# Altium schematic symbol library PCB_LDB-U01.SchLib: 16 symbols
Pins are listed as number, name and electrical type; pins without a type are passive.

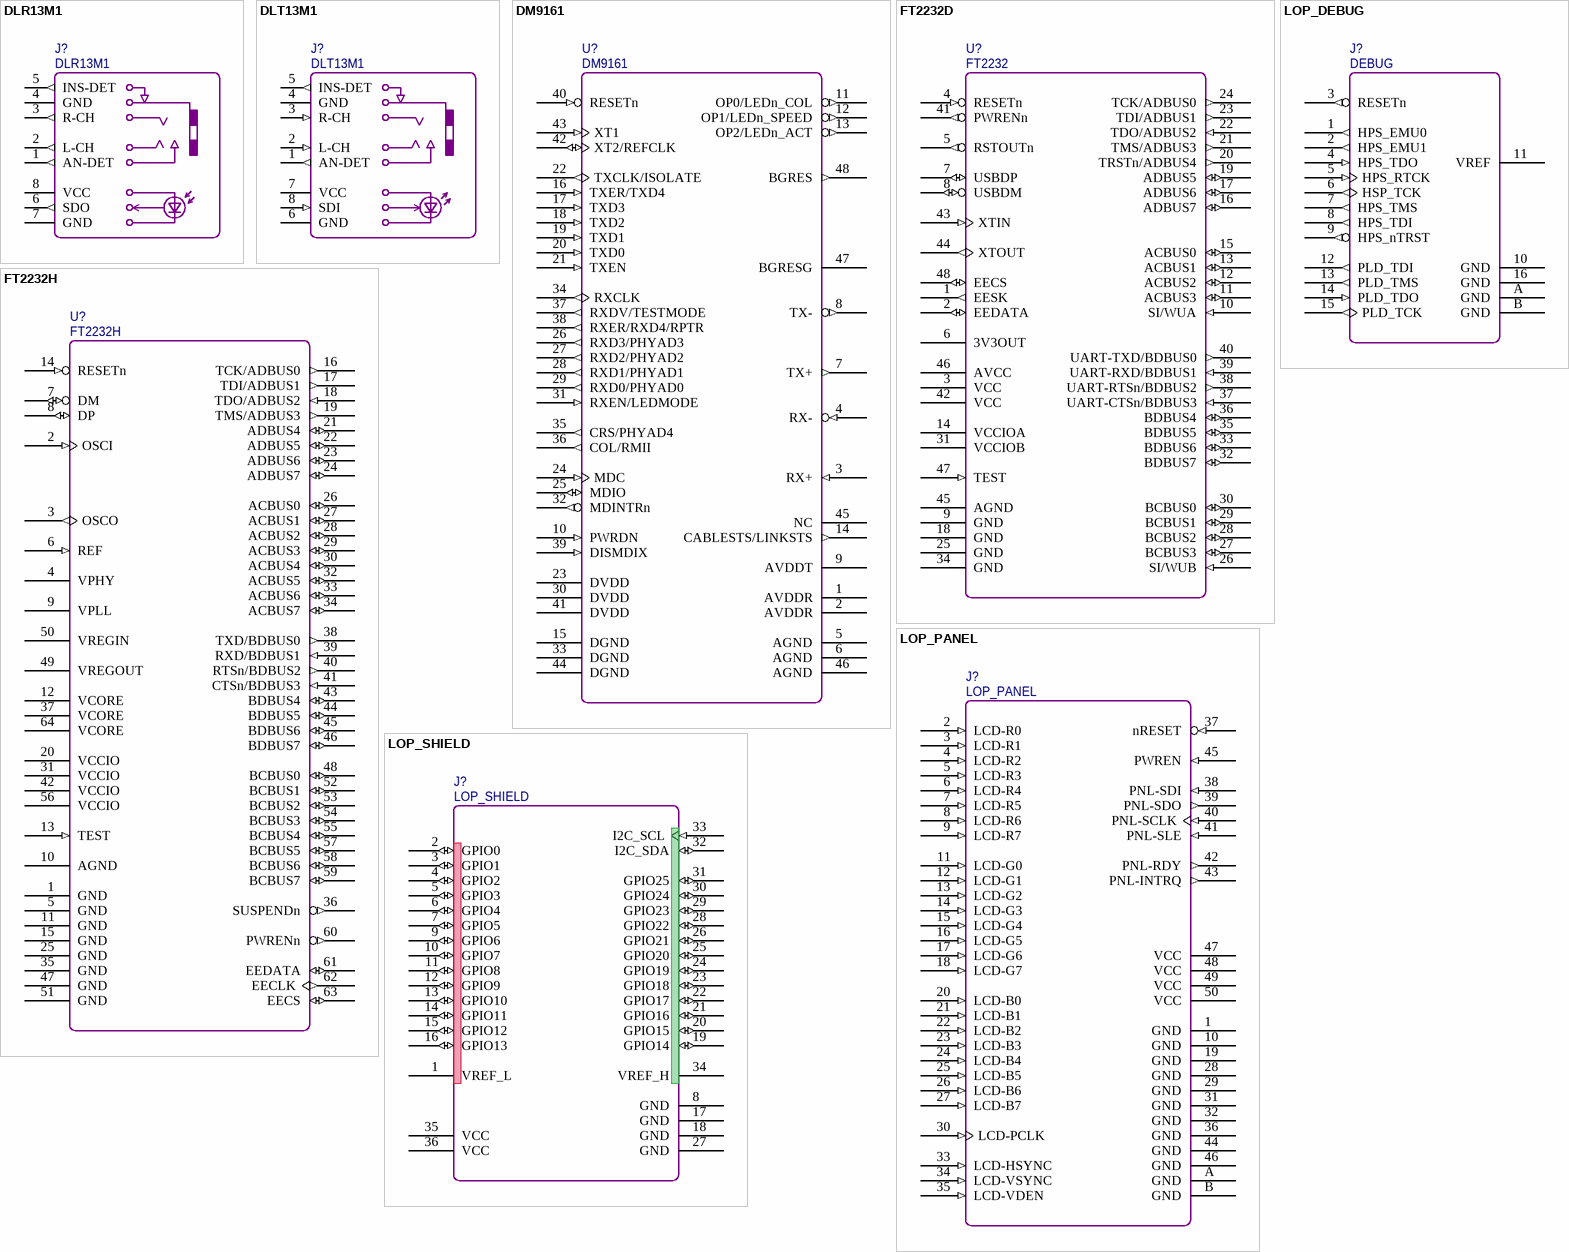
[diagram p0: symbols DLR13M1 to LOP_SHIELD]

## DLR13M1
designator J?
3.5mm Audio Jack with SPDIF Optical Input; Vendor: Ax-Edison; PinCountSMD: 0; PinCountHole: 9; Designer: shyul; PCBMarker: Audio Out; Value: DLR13M1; PartNumber: DLR13M1; Version: 1.0; VersionDate: 03-16-2012; SerialNumber: 0; Publisher: Cowin
footprint DLR13M1
pins: 1 AN-DET (out), 2 L-CH (out), 3 R-CH (out), 4 GND, 5 INS-DET (out), 6 SDO (out), 7 GND, 8 VCC
2 alternate drawings of the same symbol

## DLT13M1
designator J?
3.5mm Audio Jack with SPDIF Optical Output; Vendor: Ax-Edison; PinCountSMD: 0; PinCountHole: 9; Designer: shyul; PCBMarker: Audio Out; Value: DLT13M1; PartNumber: DLT13M1; Version: 1.0; VersionDate: 03-16-2012; SerialNumber: 0; Publisher: Cowin
footprint DLT13M1
pins: 1 AN-DET (out), 2 L-CH (in), 3 R-CH (in), 4 GND, 5 INS-DET (out), 6 GND, 7 VCC, 8 SDI (in)
2 alternate drawings of the same symbol

## DM9161
designator U?
DM9161 10/100M Ethernet PHY; PartNumber: DM9161AEP; Vendor: DAVICOM; PinCountSMD: 48; PinCountHole: 0; Designer: shyul; Value: DM9161; Version: 1.0; VersionDate: 03-26-2012; SerialNumber: 0; Publisher: Cowin; PCBMarker: PHY
footprint TQFP-48A
pins: 1 AVDDR, 2 AVDDR, 3 RX+ (in), 4 RX- (in), 5 AGND, 6 AGND, 7 TX+ (out), 8 TX- (out), 9 AVDDT, 10 PWRDN (in), 11 OP0/LEDn_COL (out), 12 OP1/LEDn_SPEED (out), 13 OP2/LEDn_ACT (out), 14 CABLESTS/LINKSTS (out), 15 DGND, 16 TXER/TXD4 (in), 17 TXD3 (in), 18 TXD2 (in), 19 TXD1 (in), 20 TXD0 (in), 21 TXEN (in), 22 TXCLK/ISOLATE (out), 23 DVDD, 24 MDC (in), 25 MDIO (io), 26 RXD3/PHYAD3 (out), 27 RXD2/PHYAD2 (out), 28 RXD1/PHYAD1 (out), 29 RXD0/PHYAD0 (out), 30 DVDD, 31 RXEN/LEDMODE (in), 32 MDINTRn (out), 33 DGND, 34 RXCLK (out), 35 CRS/PHYAD4 (out), 36 COL/RMII (out), 37 RXDV/TESTMODE (out), 38 RXER/RXD4/RPTR (out), 39 DISMDIX (in), 40 RESETn (in), 41 DVDD, 42 XT2/REFCLK (io), 43 XT1 (in), 44 DGND, 45 NC, 46 AGND, 47 BGRESG, 48 BGRES (out)
2 alternate drawings of the same symbol

## FT2232D
designator U?, comment FT2232
USB to JTAG/UART; PartNumber: FT2232D; Vendor: FTDI; PinCountSMD: 48; PinCountHole: 0; Designer: shyul; PCBMarker: 2232; Value: FT2232; Version: 1.0; VersionDate: 03-26-2012; SerialNumber: 0; Publisher: Cowin
footprint TQFP-48A
pins: 1 EESK (out), 2 EEDATA (io), 3 VCC, 4 RESETn (in), 5 RSTOUTn (out), 6 3V3OUT (power), 7 USBDP (io), 8 USBDM (io), 9 GND, 10 SI/WUA (in), 11 ACBUS3 (io), 12 ACBUS2 (io), 13 ACBUS1 (io), 14 VCCIOA, 15 ACBUS0 (io), 16 ADBUS7 (io), 17 ADBUS6 (io), 18 GND, 19 ADBUS5 (io), 20 TRSTn/ADBUS4 (out), 21 TMS/ADBUS3 (out), 22 TDO/ADBUS2 (in), 23 TDI/ADBUS1 (out), 24 TCK/ADBUS0 (out), 25 GND, 26 SI/WUB (in), 27 BCBUS3 (io), 28 BCBUS2 (io), 29 BCBUS1 (io), 30 BCBUS0 (io), 31 VCCIOB, 32 BDBUS7 (io), 33 BDBUS6 (io), 34 GND, 35 BDBUS5 (io), 36 BDBUS4 (io), 37 UART-CTSn/BDBUS3 (in), 38 UART-RTSn/BDBUS2 (out), 39 UART-RXD/BDBUS1 (in), 40 UART-TXD/BDBUS0 (out), 41 PWRENn (out), 42 VCC, 43 XTIN (in), 44 XTOUT (out), 45 AGND, 46 AVCC, 47 TEST (in), 48 EECS (io)
2 alternate drawings of the same symbol

## FT2232H
designator U?
USB to JTAG/UART; PartNumber: FT2232HL; Vendor: FTDI; PinCountSMD: 64; PinCountHole: 0; Designer: shyul; PCBMarker: 2232; Value: FT2232H; Version: 1.0; VersionDate: 03-26-2012; SerialNumber: 0; Publisher: Cowin
footprint TQFP-64A
pins: 1 GND, 2 OSCI (in), 3 OSCO (out), 4 VPHY, 5 GND, 6 REF (in), 7 DM (io), 8 DP (io), 9 VPLL, 10 AGND, 11 GND, 12 VCORE, 13 TEST (in), 14 RESETn (in), 15 GND, 16 TCK/ADBUS0 (out), 17 TDI/ADBUS1 (out), 18 TDO/ADBUS2 (in), 19 TMS/ADBUS3 (out), 20 VCCIO, 21 ADBUS4 (io), 22 ADBUS5 (io), 23 ADBUS6 (io), 24 ADBUS7 (io), 25 GND, 26 ACBUS0 (io), 27 ACBUS1 (io), 28 ACBUS2 (io), 29 ACBUS3 (io), 30 ACBUS4 (io), 31 VCCIO, 32 ACBUS5 (io), 33 ACBUS6 (io), 34 ACBUS7 (io), 35 GND, 36 SUSPENDn (out), 37 VCORE, 38 TXD/BDBUS0 (out), 39 RXD/BDBUS1 (in), 40 RTSn/BDBUS2 (out), 41 CTSn/BDBUS3 (in), 42 VCCIO, 43 BDBUS4 (io), 44 BDBUS5 (io), 45 BDBUS6 (io), 46 BDBUS7 (io), 47 GND, 48 BCBUS0 (io), 49 VREGOUT (power), 50 VREGIN, 51 GND, 52 BCBUS1 (io), 53 BCBUS2 (io), 54 BCBUS3 (io), 55 BCBUS4 (io), 56 VCCIO, 57 BCBUS5 (io), 58 BCBUS6 (io), 59 BCBUS7 (io), 60 PWRENn (out), 61 EEDATA (io), 62 EECLK (out), 63 EECS (io), 64 VCORE
2 alternate drawings of the same symbol

## LOP_DEBUG
designator J?, comment DEBUG
JTAG HPI Header; SerialNumber: 0; Vendor: Tyco; Designer: shyul; PCBMarker: DEBUG; PartNumber: DEBUG; Version: 1.0; VersionDate: 03-30-2012; Value: DEBUG; Publisher: Cowin; PinCountHole: 0
footprint HPI_1P25_RA16S
pins: 1 HPS_EMU0 (out), 2 HPS_EMU1 (out), 3 RESETn (out), 4 HPS_TDO (in), 5 HPS_RTCK (in), 6 HSP_TCK (out), 7 HPS_TMS (out), 8 HPS_TDI (out), 9 HPS_nTRST (out), 10 GND, 11 VREF, 12 PLD_TDI (out), 13 PLD_TMS (out), 14 PLD_TDO (in), 15 PLD_TCK (out), 16 GND, A GND (power), B GND (power)

## LOP_PANEL
designator J?
Lophilo Panel Interface; Vendor: 0; PinCountHole: 52; Designer: shyul; Value: LOP_PANEL; PartNumber: LOP_PANEL; Version: 1.0; VersionDate: 06-03-2012; PinCountSMD: 0; SerialNumber: 0; Publisher: Cowin; PCBMarker: LOP_PANEL
footprint FPC_0P5_50A
pins: 1 GND, 2 LCD-R0 (in), 3 LCD-R1 (in), 4 LCD-R2 (in), 5 LCD-R3 (in), 6 LCD-R4 (in), 7 LCD-R5 (in), 8 LCD-R6 (in), 9 LCD-R7 (in), 10 GND, 11 LCD-G0 (in), 12 LCD-G1 (in), 13 LCD-G2 (in), 14 LCD-G3 (in), 15 LCD-G4 (in), 16 LCD-G5 (in), 17 LCD-G6 (in), 18 LCD-G7 (in), 19 GND, 20 LCD-B0 (in), 21 LCD-B1 (in), 22 LCD-B2 (in), 23 LCD-B3 (in), 24 LCD-B4 (in), 25 LCD-B5 (in), 26 LCD-B6 (in), 27 LCD-B7 (in), 28 GND, 29 GND, 30 LCD-PCLK (in), 31 GND, 32 GND, 33 LCD-HSYNC (in), 34 LCD-VSYNC (in), 35 LCD-VDEN (in), 36 GND, 37 nRESET (in), 38 PNL-SDI (in), 39 PNL-SDO (out), 40 PNL-SCLK (in), 41 PNL-SLE (in), 42 PNL-RDY (out), 43 PNL-INTRQ (out), 44 GND, 45 PWREN (in), 46 GND, 47 VCC, 48 VCC, 49 VCC, 50 VCC, A GND, B GND
2 alternate drawings of the same symbol

## LOP_SHIELD
designator J?
Lophilo Shield Module Slot; Vendor: 0; PinCountHole: 36; Designer: shyul; Value: LOP_SHIELD; PartNumber: LOP_SHIELD; Version: 1.0; VersionDate: 03-19-2012; PinCountSMD: 0; SerialNumber: 0; Publisher: Cowin; PCBMarker: LOP_SHIELD
footprint LOP_SHIELD
pins: 1 VREF_L (power), 2 GPIO0 (io), 3 GPIO1 (io), 4 GPIO2 (io), 5 GPIO3 (io), 6 GPIO4 (io), 7 GPIO5 (io), 8 GND, 9 GPIO6 (io), 10 GPIO7 (io), 11 GPIO8 (io), 12 GPIO9 (io), 13 GPIO10 (io), 14 GPIO11 (io), 15 GPIO12 (io), 16 GPIO13 (io), 17 GND, 18 GND, 19 GPIO14 (io), 20 GPIO15 (io), 21 GPIO16 (io), 22 GPIO17 (io), 23 GPIO18 (io), 24 GPIO19 (io), 25 GPIO20 (io), 26 GPIO21 (io), 27 GND, 28 GPIO22 (io), 29 GPIO23 (io), 30 GPIO24 (io), 31 GPIO25 (io), 32 I2C_SDA (io), 33 I2C_SCL (in), 34 VREF_H (power), 35 VCC, 36 VCC
2 alternate drawings of the same symbol

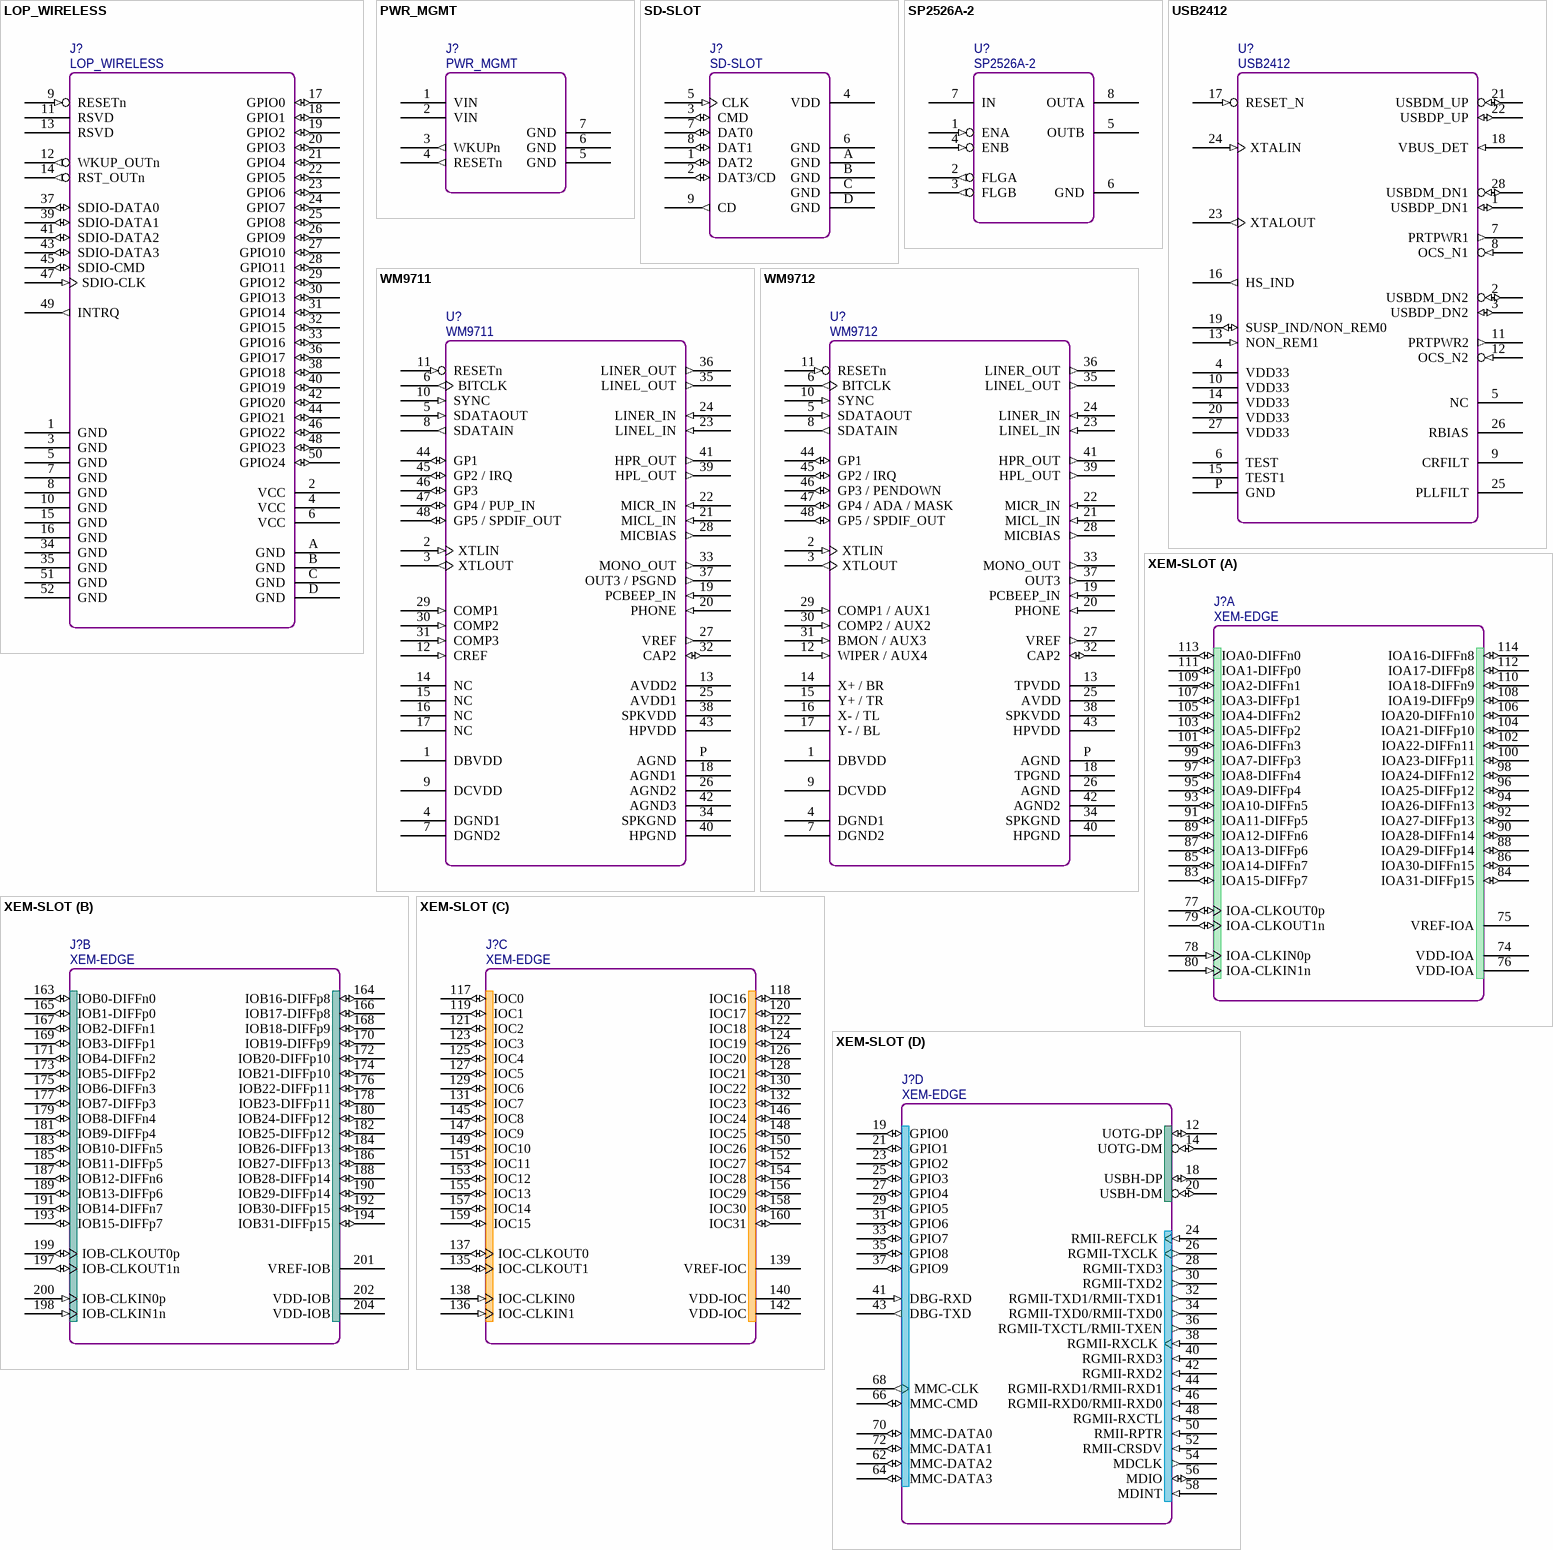
[diagram p1: symbols LOP_WIRELESS to XEM-SLOT]

## LOP_WIRELESS
designator J?
Lophilo Wireless Module Slot; Vendor: 0; PinCountHole: 36; Designer: shyul; Value: LOP_WIRELESS; PartNumber: LOP_WIRELESS; Version: 1.0; VersionDate: 03-19-2012; PinCountSMD: 0; SerialNumber: 0; Publisher: Cowin; PCBMarker: LOP_WIRELESS
footprint LOP_WIRELESS
pins: 1 GND, 2 VCC, 3 GND, 4 VCC, 5 GND, 6 VCC, 7 GND, 8 GND, 9 RESETn (in), 10 GND, 11 RSVD, 12 WKUP_OUTn (out), 13 RSVD, 14 RST_OUTn (out), 15 GND, 16 GND, 17 GPIO0 (io), 18 GPIO1 (io), 19 GPIO2 (io), 20 GPIO3 (io), 21 GPIO4 (io), 22 GPIO5 (io), 23 GPIO6 (io), 24 GPIO7 (io), 25 GPIO8 (io), 26 GPIO9 (io), 27 GPIO10 (io), 28 GPIO11 (io), 29 GPIO12 (io), 30 GPIO13 (io), 31 GPIO14 (io), 32 GPIO15 (io), 33 GPIO16 (io), 34 GND, 35 GND, 36 GPIO17 (io), 37 SDIO-DATA0 (io), 38 GPIO18 (io), 39 SDIO-DATA1 (io), 40 GPIO19 (io), 41 SDIO-DATA2 (io), 42 GPIO20 (io), 43 SDIO-DATA3 (io), 44 GPIO21 (io), 45 SDIO-CMD (io), 46 GPIO22 (io), 47 SDIO-CLK (in), 48 GPIO23 (io), 49 INTRQ (out), 50 GPIO24 (io), 51 GND, 52 GND, A GND, B GND, C GND, D GND
2 alternate drawings of the same symbol

## PWR_MGMT
designator J?
Lophilo Power Management; Vendor: 0; PinCountHole: 7; Designer: shyul; Value: PWR_MGMT; PartNumber: PWR_MGMT; Version: 1.0; VersionDate: 03-27-2012; PinCountSMD: 0; SerialNumber: 0; Publisher: Cowin; PCBMarker: PWR_MGMT
footprint PWR_MGMT
pins: 1 VIN (power), 2 VIN (power), 3 WKUPn (out), 4 RESETn (out), 5 GND, 6 GND, 7 GND
2 alternate drawings of the same symbol

## SD-SLOT
designator J?
SD Card Push-on Push-off slot; Vendor: Hirose; PinCountSMD: 13; PinCountHole: 0; Designer: shyul; Value: SD-SLOT; PartNumber: SD-SLOT; Version: 1.0; VersionDate: 03-16-2012; SerialNumber: 0; Publisher: Cowin; PCBMarker: SD-SLOT
footprint SD-SLOT
pins: 1 DAT2 (io), 2 DAT3/CD (io), 3 CMD (io), 4 VDD, 5 CLK (in), 6 GND, 7 DAT0 (io), 8 DAT1 (io), 9 CD (out), A GND, B GND, C GND, D GND
2 alternate drawings of the same symbol

## SP2526A-2
designator U?
Power Switch; PartNumber: SP2526A-2EN; Vendor: EXAR; PinCountSMD: 29; PinCountHole: 0; Designer: shyul; PCBMarker: PHY; Value: SP2526A-2; Version: 1.0; VersionDate: 03-26-2012; SerialNumber: 0; Publisher: Cowin
footprint SOIC-8S
pins: 1 ENA (in), 2 FLGA (out), 3 FLGB (out), 4 ENB (in), 5 OUTB (power), 6 GND, 7 IN, 8 OUTA (power)
2 alternate drawings of the same symbol

## USB2412
designator U?
Embedded USB Hub; PartNumber: USB2412-DZK; Vendor: SMSC; PinCountSMD: 29; PinCountHole: 0; Designer: shyul; PCBMarker: PHY; Value: USB2412; Version: 1.0; VersionDate: 03-26-2012; SerialNumber: 0; Publisher: Cowin
footprint QFN-5-28
pins: 1 USBDP_DN1 (io), 2 USBDM_DN2 (io), 3 USBDP_DN2 (io), 4 VDD33, 5 NC, 6 TEST, 7 PRTPWR1 (out), 8 OCS_N1 (in), 9 CRFILT, 10 VDD33, 11 PRTPWR2 (out), 12 OCS_N2 (in), 13 NON_REM1 (in), 14 VDD33, 15 TEST1, 16 HS_IND (out), 17 RESET_N (in), 18 VBUS_DET (in), 19 SUSP_IND/NON_REM0 (io), 20 VDD33, 21 USBDM_UP (io), 22 USBDP_UP (io), 23 XTALOUT (out), 24 XTALIN (in), 25 PLLFILT, 26 RBIAS, 27 VDD33, 28 USBDM_DN1 (io), P GND
2 alternate drawings of the same symbol

## WM9711
designator U?
WM9711 AC97 Codec; PartNumber: WM9711LGEFL; Vendor: Wolfson; PinCountSMD: 49; PinCountHole: 0; Designer: shyul; Value: WM9711; Version: 1.0; VersionDate: 03-16-2012; SerialNumber: 0; Publisher: Cowin; PCBMarker: AC97
footprint QFN-7-48
pins: 1 DBVDD, 2 XTLIN (in), 3 XTLOUT (out), 4 DGND1, 5 SDATAOUT (in), 6 BITCLK (out), 7 DGND2, 8 SDATAIN (out), 9 DCVDD, 10 SYNC (in), 11 RESETn (in), 12 CREF (in), 13 AVDD2, 14 NC, 15 NC, 16 NC, 17 NC, 18 AGND1, 19 PCBEEP_IN (in), 20 PHONE (in), 21 MICL_IN (in), 22 MICR_IN (in), 23 LINEL_IN (in), 24 LINER_IN (in), 25 AVDD1, 26 AGND2, 27 VREF (out), 28 MICBIAS (out), 29 COMP1 (in), 30 COMP2 (in), 31 COMP3 (in), 32 CAP2 (io), 33 MONO_OUT (out), 34 SPKGND, 35 LINEL_OUT (out), 36 LINER_OUT (out), 37 OUT3 / PSGND (out), 38 SPKVDD, 39 HPL_OUT (out), 40 HPGND, 41 HPR_OUT (out), 42 AGND3, 43 HPVDD, 44 GP1 (io), 45 GP2 / IRQ (io), 46 GP3 (io), 47 GP4 / PUP_IN (io), 48 GP5 / SPDIF_OUT  (io), P AGND
2 alternate drawings of the same symbol

## WM9712
designator U?
WM9712 AC97 Codec; PartNumber: WM9712LGEFL; Vendor: Wolfson; PinCountSMD: 49; PinCountHole: 0; Designer: shyul; Value: WM9712; Version: 1.0; VersionDate: 07-06-2012; SerialNumber: 0; Publisher: Cowin; PCBMarker: AC97
footprint QFN-7-48
pins: 1 DBVDD, 2 XTLIN (in), 3 XTLOUT (out), 4 DGND1, 5 SDATAOUT (in), 6 BITCLK (out), 7 DGND2, 8 SDATAIN (out), 9 DCVDD, 10 SYNC (in), 11 RESETn (in), 12 WIPER / AUX4 (in), 13 TPVDD, 14 X+ / BR, 15 Y+ / TR, 16 X- / TL, 17 Y- / BL, 18 TPGND, 19 PCBEEP_IN (in), 20 PHONE (in), 21 MICL_IN (in), 22 MICR_IN (in), 23 LINEL_IN (in), 24 LINER_IN (in), 25 AVDD, 26 AGND, 27 VREF (out), 28 MICBIAS (out), 29 COMP1 / AUX1 (in), 30 COMP2 / AUX2 (in), 31 BMON / AUX3 (in), 32 CAP2 (io), 33 MONO_OUT (out), 34 SPKGND, 35 LINEL_OUT (out), 36 LINER_OUT (out), 37 OUT3 (out), 38 SPKVDD, 39 HPL_OUT (out), 40 HPGND, 41 HPR_OUT (out), 42 AGND2, 43 HPVDD, 44 GP1 (io), 45 GP2 / IRQ (io), 46 GP3 / PENDOWN (io), 47 GP4 / ADA / MASK (io), 48 GP5 / SPDIF_OUT  (io), P AGND
2 alternate drawings of the same symbol

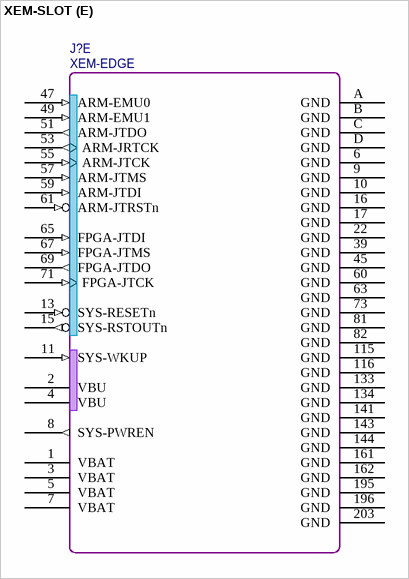
[diagram p2: symbol XEM-SLOT]

## XEM-SLOT
designator J?, comment XEM-EDGE
XEM Edge Connector 204-pins; Vendor: Cowin; PinCountSMD: 0; Designer: shyul; Value: XEM-EDGE; PartNumber: XEM-EDGE; Version: 1.0; VersionDate: 03-09-2012; PinCountHole: 0; SerialNumber: 0; Publisher: Cowin; PCBMarker: XEM
footprint XEM-1S-204
part A pins: 74 VDD-IOA, 75 VREF-IOA, 76 VDD-IOA, 77 IOA-CLKOUT0p (io), 78 IOA-CLKIN0p (in), 79 IOA-CLKOUT1n (io), 80 IOA-CLKIN1n (in), 83 IOA15-DIFFp7 (io), 84 IOA31-DIFFp15 (io), 85 IOA14-DIFFn7 (io), 86 IOA30-DIFFn15 (io), 87 IOA13-DIFFp6 (io), 88 IOA29-DIFFp14 (io), 89 IOA12-DIFFn6 (io), 90 IOA28-DIFFn14 (io), 91 IOA11-DIFFp5 (io), 92 IOA27-DIFFp13 (io), 93 IOA10-DIFFn5 (io), 94 IOA26-DIFFn13 (io), 95 IOA9-DIFFp4 (io), 96 IOA25-DIFFp12 (io), 97 IOA8-DIFFn4 (io), 98 IOA24-DIFFn12 (io), 99 IOA7-DIFFp3 (io), 100 IOA23-DIFFp11 (io), 101 IOA6-DIFFn3 (io), 102 IOA22-DIFFn11 (io), 103 IOA5-DIFFp2 (io), 104 IOA21-DIFFp10 (io), 105 IOA4-DIFFn2 (io), 106 IOA20-DIFFn10 (io), 107 IOA3-DIFFp1 (io), 108 IOA19-DIFFp9 (io), 109 IOA2-DIFFn1 (io), 110 IOA18-DIFFn9 (io), 111 IOA1-DIFFp0 (io), 112 IOA17-DIFFp8 (io), 113 IOA0-DIFFn0 (io), 114 IOA16-DIFFn8 (io)
part B pins: 163 IOB0-DIFFn0 (io), 164 IOB16-DIFFp8 (io), 165 IOB1-DIFFp0 (io), 166 IOB17-DIFFp8 (io), 167 IOB2-DIFFn1 (io), 168 IOB18-DIFFp9 (io), 169 IOB3-DIFFp1 (io), 170 IOB19-DIFFp9 (io), 171 IOB4-DIFFn2 (io), 172 IOB20-DIFFp10 (io), 173 IOB5-DIFFp2 (io), 174 IOB21-DIFFp10 (io), 175 IOB6-DIFFn3 (io), 176 IOB22-DIFFp11 (io), 177 IOB7-DIFFp3 (io), 178 IOB23-DIFFp11 (io), 179 IOB8-DIFFn4 (io), 180 IOB24-DIFFp12 (io), 181 IOB9-DIFFp4 (io), 182 IOB25-DIFFp12 (io), 183 IOB10-DIFFn5 (io), 184 IOB26-DIFFp13 (io), 185 IOB11-DIFFp5 (io), 186 IOB27-DIFFp13 (io), 187 IOB12-DIFFn6 (io), 188 IOB28-DIFFp14 (io), 189 IOB13-DIFFp6 (io), 190 IOB29-DIFFp14 (io), 191 IOB14-DIFFn7 (io), 192 IOB30-DIFFp15 (io), 193 IOB15-DIFFp7 (io), 194 IOB31-DIFFp15 (io), 197 IOB-CLKOUT1n (io), 198 IOB-CLKIN1n (in), 199 IOB-CLKOUT0p (io), 200 IOB-CLKIN0p (in), 201 VREF-IOB, 202 VDD-IOB, 204 VDD-IOB
part C pins: 117 IOC0 (io), 118 IOC16 (io), 119 IOC1 (io), 120 IOC17 (io), 121 IOC2 (io), 122 IOC18 (io), 123 IOC3 (io), 124 IOC19 (io), 125 IOC4 (io), 126 IOC20 (io), 127 IOC5 (io), 128 IOC21 (io), 129 IOC6 (io), 130 IOC22 (io), 131 IOC7 (io), 132 IOC23 (io), 135 IOC-CLKOUT1 (io), 136 IOC-CLKIN1 (in), 137 IOC-CLKOUT0 (io), 138 IOC-CLKIN0 (in), 139 VREF-IOC, 140 VDD-IOC, 142 VDD-IOC, 145 IOC8 (io), 146 IOC24 (io), 147 IOC9 (io), 148 IOC25 (io), 149 IOC10 (io), 150 IOC26 (io), 151 IOC11 (io), 152 IOC27 (io), 153 IOC12 (io), 154 IOC28 (io), 155 IOC13 (io), 156 IOC29 (io), 157 IOC14 (io), 158 IOC30 (io), 159 IOC15 (io), 160 IOC31 (io)
part D pins: 12 UOTG-DP (io), 14 UOTG-DM (io), 18 USBH-DP (io), 19 GPIO0 (io), 20 USBH-DM (io), 21 GPIO1 (io), 23 GPIO2 (io), 24 RMII-REFCLK (in), 25 GPIO3 (io), 26 RGMII-TXCLK (out), 27 GPIO4 (io), 28 RGMII-TXD3 (out), 29 GPIO5 (io), 30 RGMII-TXD2 (out), 31 GPIO6 (io), 32 RGMII-TXD1/RMII-TXD1 (out), 33 GPIO7 (io), 34 RGMII-TXD0/RMII-TXD0 (out), 35 GPIO8 (io), 36 RGMII-TXCTL/RMII-TXEN (out), 37 GPIO9 (io), 38 RGMII-RXCLK (in), 40 RGMII-RXD3 (in), 41 DBG-RXD (in), 42 RGMII-RXD2 (in), 43 DBG-TXD (out), 44 RGMII-RXD1/RMII-RXD1 (in), 46 RGMII-RXD0/RMII-RXD0 (in), 48 RGMII-RXCTL (in), 50 RMII-RPTR (in), 52 RMII-CRSDV (in), 54 MDCLK (out), 56 MDIO (io), 58 MDINT (in), 62 MMC-DATA2 (io), 64 MMC-DATA3 (io), 66 MMC-CMD (io), 68 MMC-CLK (out), 70 MMC-DATA0 (io), 72 MMC-DATA1 (io)
part E pins: 1 VBAT, 2 VBU, 3 VBAT, 4 VBU, 5 VBAT, 6 GND, 7 VBAT, 8 SYS-PWREN (out), 9 GND, 10 GND, 11 SYS-WKUP (in), 13 SYS-RESETn (in), 15 SYS-RSTOUTn (out), 16 GND, 17 GND, 22 GND, 39 GND, 45 GND, 47 ARM-EMU0 (in), 49 ARM-EMU1 (in), 51 ARM-JTDO (out), 53 ARM-JRTCK (out), 55 ARM-JTCK (in), 57 ARM-JTMS (in), 59 ARM-JTDI (in), 60 GND, 61 ARM-JTRSTn (in), 63 GND, 65 FPGA-JTDI (in), 67 FPGA-JTMS (in), 69 FPGA-JTDO (out), 71 FPGA-JTCK (in), 73 GND, 81 GND, 82 GND, 115 GND, 116 GND, 133 GND, 134 GND, 141 GND, 143 GND, 144 GND, 161 GND, 162 GND, 195 GND, 196 GND, 203 GND, A GND, B GND, C GND, D GND
2 alternate drawings of the same symbol